# Altium footprint library IC_Chip.PcbLib: 4 footprints
Each footprint in its own frame and in the unit in brackets; x right, y up, seen from the top. Pads: shape width x height; smd on the part's side, far side on the other; paste and mask are expansions set on the pad; w line width, h text height; cw(c..) or ccw(c..) is an arc to the next point about the centre after c.
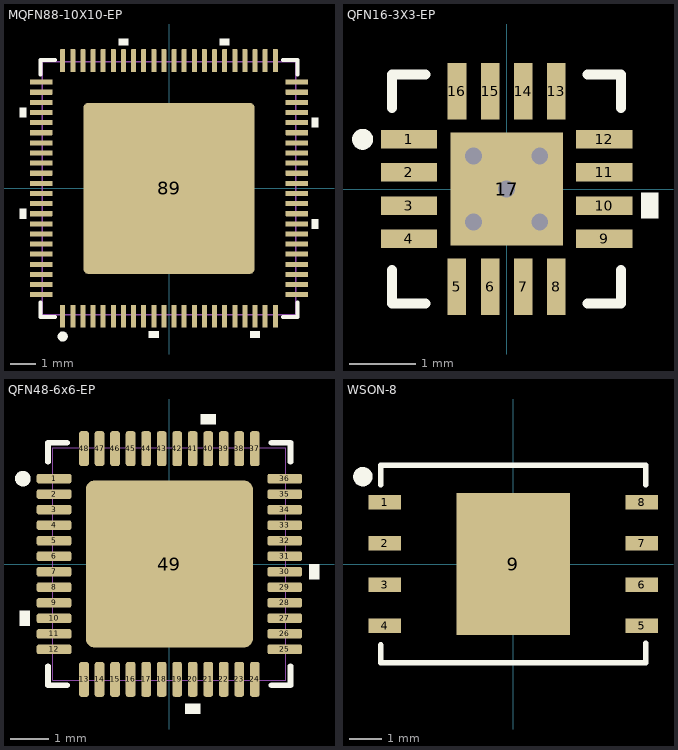
[diagram p0: the footprints below, top view; thin cyan lines are the x and y axes]

## MQFN88-10X10-EP [mm]
pads (89):
  rrect20% 0.2x0.9 smd mask+0.1: 1(-4.2,-5.05) 2(-3.8,-5.05) 3(-3.4,-5.05) 4(-3,-5.05) 5(-2.6,-5.05) 6(-2.2,-5.05) 7(-1.8,-5.05) 8(-1.4,-5.05) 9(-1,-5.05) 10(-0.6,-5.05) 11(-0.2,-5.05) 12(0.2,-5.05) 13(0.6,-5.05) 14(1,-5.05) 15(1.4,-5.05) 16(1.8,-5.05) 17(2.2,-5.05) 18(2.6,-5.05) 19(3,-5.05) 20(3.4,-5.05) 21(3.8,-5.05) 22(4.2,-5.05) 45(4.2,5.05) 46(3.8,5.05) 47(3.4,5.05) 48(3,5.05) 49(2.6,5.05) 50(2.2,5.05) 51(1.8,5.05) 52(1.4,5.05) 53(1,5.05) 54(0.6,5.05) 55(0.2,5.05) 56(-0.2,5.05) 57(-0.6,5.05) 58(-1,5.05) 59(-1.4,5.05) 60(-1.8,5.05) 61(-2.2,5.05) 62(-2.6,5.05) 63(-3,5.05) 64(-3.4,5.05) 65(-3.8,5.05) 66(-4.2,5.05)
  rrect20% 0.9x0.2 smd mask+0.1: 23(5.05,-4.2) 24(5.05,-3.8) 25(5.05,-3.4) 26(5.05,-3) 27(5.05,-2.6) 28(5.05,-2.2) 29(5.05,-1.8) 30(5.05,-1.4) 31(5.05,-1) 32(5.05,-0.6) 33(5.05,-0.2) 34(5.05,0.2) 35(5.05,0.6) 36(5.05,1) 37(5.05,1.4) 38(5.05,1.8) 39(5.05,2.2) 40(5.05,2.6) 41(5.05,3) 42(5.05,3.4) 43(5.05,3.8) 44(5.05,4.2) 67(-5.05,4.2) 68(-5.05,3.8) 69(-5.05,3.4) 70(-5.05,3) 71(-5.05,2.6) 72(-5.05,2.2) 73(-5.05,1.8) 74(-5.05,1.4) 75(-5.05,1) 76(-5.05,0.6) 77(-5.05,0.2) 78(-5.05,-0.2) 79(-5.05,-0.6) 80(-5.05,-1) 81(-5.05,-1.4) 82(-5.05,-1.8) 83(-5.05,-2.2) 84(-5.05,-2.6) 85(-5.05,-3) 86(-5.05,-3.4) 87(-5.05,-3.8) 88(-5.05,-4.2)
  rrect5% 6.75x6.75 smd mask+0.1: 89(0,0)
Top Overlay:
  circle w0.2: c-4.2,-5.85 r0.1
  region: -0.79,-5.65 -0.79,-5.904 -0.409,-5.904 -0.409,-5.65
  region: 3.21,-5.65 3.21,-5.904 3.591,-5.904 3.591,-5.65
  region: 5.65,-1.59 5.904,-1.59 5.904,-1.209 5.65,-1.209
  region: 5.65,2.409 5.904,2.409 5.904,2.79 5.65,2.79
  region: 2.391,5.65 2.391,5.904 2.01,5.904 2.01,5.65
  region: -1.609,5.65 -1.609,5.904 -1.99,5.904 -1.99,5.65
  region: -5.65,3.19 -5.904,3.19 -5.904,2.809 -5.65,2.809
  region: -5.65,-0.81 -5.904,-0.81 -5.904,-1.191 -5.65,-1.191
  lines w0.152: -5.076,-4.503 -5.076,-5.076 -4.503,-5.076 ; -5.076,4.503 -5.076,5.076 -4.503,5.076 ; 4.503,-5.076 5.076,-5.076 5.076,-4.503 ; 4.503,5.076 5.076,5.076 5.076,4.503
Mechanical 13:
  lines w0.051: -5,-5 5,-5 5,5 -5,5 -5,-5
3D body "QFN-88-EP_10X10_Pitch0_4mm.STEP": height 0.86, standoff 0, extent -5,-5 5,5

## QFN16-3X3-EP [mm]
pads (17):
  rect 0.85x0.28 smd paste-0.01 mask+0.07: 1(-1.475,0.75) 2(-1.475,0.25) 3(-1.475,-0.25) 4(-1.475,-0.75) 9(1.475,-0.75) 10(1.475,-0.25) 11(1.475,0.25) 12(1.475,0.75)
  rect 0.28x0.85 smd paste-0.01 mask+0.07: 5(-0.75,-1.475) 6(-0.25,-1.475) 7(0.25,-1.475) 8(0.75,-1.475) 13(0.75,1.475) 14(0.25,1.475) 15(-0.25,1.475) 16(-0.75,1.475)
  rect 1.7x1.7 smd paste-0.01 mask+0.07: 17(0,0)
via 0,0 diameter 0.508 hole 0.254
via -0.5,0.5 diameter 0.508 hole 0.254
via 0.5,0.5 diameter 0.508 hole 0.254
via 0.5,-0.5 diameter 0.508 hole 0.254
via -0.5,-0.5 diameter 0.508 hole 0.254
Top Overlay:
  circle w0.175: c-2.175,0.75 r0.07
  region: 2.032,-0.059 2.286,-0.059 2.286,-0.44 2.032,-0.44
  lines w0.152: -1.729,-1.727 -1.729,-1.223 ; -1.729,1.223 -1.729,1.727 ; -1.727,-1.729 -1.223,-1.729 ; -1.727,1.729 -1.223,1.729 ; 1.223,-1.729 1.727,-1.729 ; 1.223,1.729 1.727,1.729 ; 1.729,-1.727 1.729,-1.223 ; 1.729,1.223 1.729,1.727
3D body "RGT16_1P7X1P7.step": height 1, standoff 0, extent -1.626,-1.626 1.626,1.626

## QFN48-6x6-EP [mm]
pads (49):
  rrect50% 0.9x0.25 smd paste+0 mask+0.1: 1(-2.972,2.2) 2(-2.972,1.8) 3(-2.972,1.4) 4(-2.972,1) 5(-2.972,0.6) 6(-2.972,0.2) 7(-2.972,-0.2) 8(-2.972,-0.6) 9(-2.972,-1) 10(-2.972,-1.4) 11(-2.972,-1.8) 12(-2.972,-2.2) 25(2.972,-2.2) 26(2.972,-1.8) 27(2.972,-1.4) 28(2.972,-1) 29(2.972,-0.6) 30(2.972,-0.2) 31(2.972,0.2) 32(2.972,0.6) 33(2.972,1) 34(2.972,1.4) 35(2.972,1.8) 36(2.972,2.2)
  rrect50% 0.25x0.9 smd paste+0 mask+0.1: 13(-2.2,-2.972) 14(-1.8,-2.972) 15(-1.4,-2.972) 16(-1,-2.972) 17(-0.6,-2.972) 18(-0.2,-2.972) 19(0.2,-2.972) 20(0.6,-2.972) 21(1,-2.972) 22(1.4,-2.972) 23(1.8,-2.972) 24(2.2,-2.972) 37(2.2,2.972) 38(1.8,2.972) 39(1.4,2.972) 40(1,2.972) 41(0.6,2.972) 42(0.2,2.972) 43(-0.2,2.972) 44(-0.6,2.972) 45(-1,2.972) 46(-1.4,2.972) 47(-1.8,2.972) 48(-2.2,2.972)
  rrect10% 4.3x4.3 smd mask+0.1: 49(0,0)
Top Overlay:
  circle w0.2: c-3.775,2.2 r0.1
  region: 1.191,3.6 0.81,3.6 0.81,3.854 1.191,3.854
  region: 0.79,-3.6 0.409,-3.6 0.409,-3.854 0.79,-3.854
  region: 3.6,-0.009 3.854,-0.009 3.854,-0.39 3.6,-0.39
  region: -3.6,-1.209 -3.854,-1.209 -3.854,-1.59 -3.6,-1.59
  lines w0.152: -3.124,-2.634 -3.124,-3.124 -2.634,-3.124 ; -3.124,2.634 -3.124,3.124 -2.634,3.124 ; 2.634,-3.124 3.124,-3.124 3.124,-2.634 ; 2.634,3.124 3.124,3.124 3.124,2.634
Mechanical 13:
  lines w0.025: -3,-3 -3,0 -3,3 0,3 3,3 3,-3 -3,-3
3D body "QFN48_6X6_QF_NOR.step": height 0.89, standoff 0, extent -2.997,-2.997 2.997,2.997

## WSON-8 [mm]
pads (9):
  rect 1x0.45 smd: 1(-3.975,1.905) 2(-3.975,0.635) 3(-3.975,-0.635) 4(-3.975,-1.905) 5(3.975,-1.905) 6(3.975,-0.635) 7(3.975,0.635) 8(3.975,1.905)
  rect 3.5x4.4 smd: 9(0,0)
Top Overlay:
  circle w0.3: c-4.65,2.7 r0.15
  lines w0.178: -4.1,-2.504 -4.1,-3.05 4.1,-3.05 4.1,-2.449 ; -4.1,2.449 -4.1,3.05 4.1,3.05 ; 4.1,2.449 4.1,3.048
Mechanical 15:
  lines w0.1: -0.5,0 0.5,0 ; 0,-0.5 0,0.5
3D body "WSON-8_6x8mm.STEP": height 0.81, standoff -0.07, extent -4.012,-2.977 3.988,3.023